# Altium footprint library TPS612592YFFR.PcbLib: 1 footprints
Each footprint in its own frame and in the unit in brackets; x right, y up, seen from the top. Pads: shape width x height; smd on the part's side, far side on the other; paste and mask are expansions set on the pad; w line width, h text height; cw(c..) or ccw(c..) is an arc to the next point about the centre after c.
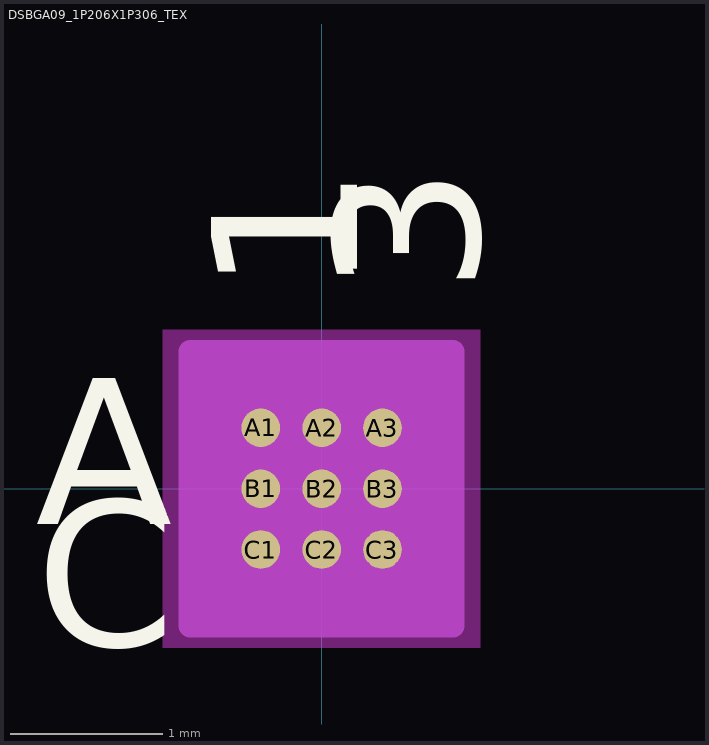
[diagram p0: the footprint, top view; thin cyan lines are the x and y axes]

## DSBGA09_1P206X1P306_TEX [mil]
pads (9):
  round 10 smd paste+0 mask+0: A1(-15.75,15.75) A2(0,15.75) A3(15.75,15.75) B1(-15.75,0) B2(0,0) B3(15.75,0) C1(-15.75,-15.75) C2(0,-15.75) C3(15.75,-15.75)
Top Overlay:
  text "A" at -74,-9.25 h50
  text "C" at -74,-40.75 h50
  text "1" at 9.25,50.5 h50
  text "3" at 40.75,50.5 h50
Bottom Overlay:
  text "A" at -49,-9.25 h50
  text "C" at -49,-40.75 h50
  text "1" at -40.75,50.5 h50
  text "3" at -9.25,50.5 h50
Keep-Out Layer:
  region: -41.12,-41.12 -41.12,41.12 41.12,41.12 41.12,-41.12
Mechanical 13:
  lines w1: -24,17.63 -16.13,25.5 ; -24,-25.5 24,-25.5 24,25.5 -24,25.5 -24,-25.5
  text "A" at -74,-9.25 h50
  text "C" at -74,-40.75 h50
  text "1" at 9.25,50.5 h50
  text "3" at 40.75,50.5 h50
Mechanical 15:
  region: 34,-35.5 -34,-35.5 -34,35.5 34,35.5
  lines w6: -34,-35.5 -34,35.5 34,35.5 34,-35.5 -34,-35.5
3D body "DSBGA09_1P206X1P306_TEX.step": height 25.12, standoff 0, extent -24.02,-25.51 24.02,25.51